# Altium schematic symbol library kmilo17pet-NSC_Interface.SchLib: 1433 symbols (part 22 of 51)
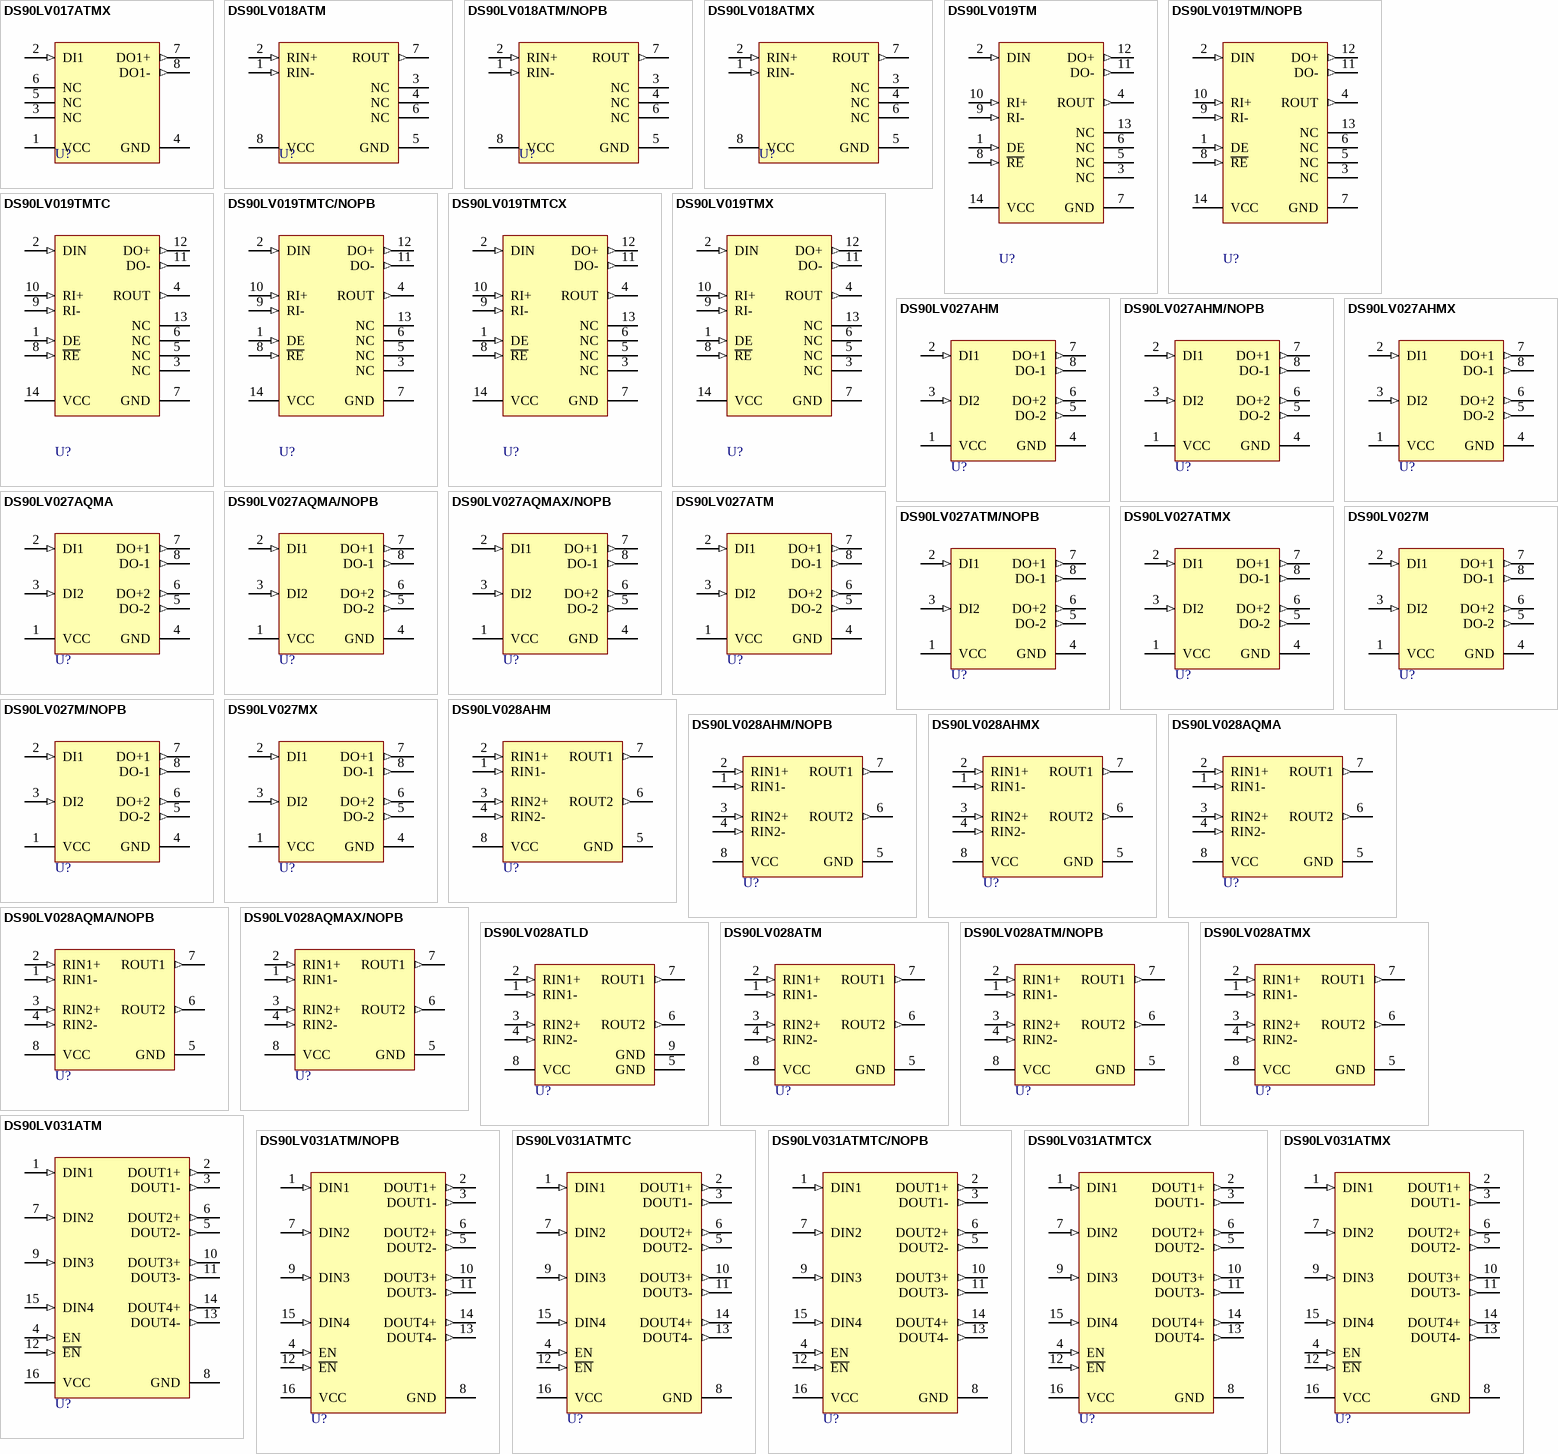
[diagram p145: symbols DS90LV017ATMX to DS90LV031ATMX]

## DS90LV028AHM
designator U?
High Temperature 3V LVDS Dual CMOS Differential Line Receiver, 8-pin Narrow SOIC; PartNumber: DS90LV028AHM; Manufacturer: National Semiconductor; PackageTopMarking: NSZXTT*90LV0*28AHM; PowerWise: N; CompType: Interface IC; High-Reliability: Y; DatasheetVersion: Sep-2005; PackageVersion: revM, May-2009; PackageReference: M08A; PackageDescription: SOIC Narrow, 4.9 x 3.9 x 1.45mm, 8 Lead, 1.27mm Pitch; RoHS: N; PinCount: 8; Code_JEDEC: MS-012-AA; Code_IPC: SOIC127P600-8; ComponentLink1Description: Manufacturer URL; ComponentLink1URL: http://www.national.com/; ComponentLink2Description: DS90LV028AH Datasheet; ComponentLink2URL: http://www.national.com/ds/DS/DS90LV028AH.pdf; ComponentLink3Description: DS90LV028AH Web Page; ComponentLink3URL: http://www.national.com/pf/DS/DS90LV028AH.html; ComponentLink4Description: M08A Package Page; ComponentLink4URL: http://www.national.com/packaging/folders/m08a.html
footprint M08A_N (SOIC, 8-Leads, Body 4.9x3.9mm, Pitch 1.27mm, IPC Medium Density)
footprint M08A_L (SOIC, 8-Leads, Body 4.9x3.9mm, Pitch 1.27mm, IPC High Density)
footprint M08A_M (SOIC, 8-Leads, Body 4.9x3.9mm, Pitch 1.27mm, IPC Low Density)
pins: 1 RIN1- (in), 2 RIN1+ (in), 3 RIN2+ (in), 4 RIN2- (in), 5 GND (power), 6 ROUT2 (out), 7 ROUT1 (out), 8 VCC (power)

## DS90LV028AHM/NOPB
designator U?
High Temperature 3V LVDS Dual CMOS Differential Line Receiver, 8 pin SOIC NARROW; PartNumber: DS90LV028AHM/NOPB; Manufacturer: National Semiconductor; PackageTopMarking: NSZXTT*90LV0*28AHM; PowerWise: N; CompType: Interface IC; High-Reliability: Y; DatasheetVersion: Sep-2005; PackageVersion: revM, May-2009; PackageReference: M08A; PackageDescription: SOIC Narrow, 4.9 x 3.9 x 1.45mm, 8 Lead, 1.27mm Pitch; RoHS: Y; PinCount: 8; Code_JEDEC: MS-012-AA; Code_IPC: SOIC127P600-8; ComponentLink1Description: Manufacturer URL; ComponentLink1URL: http://www.national.com/; ComponentLink2Description: DS90LV028AH Datasheet; ComponentLink2URL: http://www.national.com/ds/DS/DS90LV028AH.pdf; ComponentLink3Description: DS90LV028AH Web Page; ComponentLink3URL: http://www.national.com/pf/DS/DS90LV028AH.html; ComponentLink4Description: M08A Package Page; ComponentLink4URL: http://www.national.com/packaging/folders/m08a.html
footprint M08A_N (SOIC, 8-Leads, Body 4.9x3.9mm, Pitch 1.27mm, IPC Medium Density)
footprint M08A_L (SOIC, 8-Leads, Body 4.9x3.9mm, Pitch 1.27mm, IPC High Density)
footprint M08A_M (SOIC, 8-Leads, Body 4.9x3.9mm, Pitch 1.27mm, IPC Low Density)
pins: 1 RIN1- (in), 2 RIN1+ (in), 3 RIN2+ (in), 4 RIN2- (in), 5 GND (power), 6 ROUT2 (out), 7 ROUT1 (out), 8 VCC (power)

## DS90LV028AHMX
designator U?
High Temperature 3V LVDS Dual CMOS Differential Line Receiver, 8 pin SOIC NARROW; PartNumber: DS90LV028AHMX; Manufacturer: National Semiconductor; PackageTopMarking: NSZXTT*90LV0*28AHM; PowerWise: N; CompType: Interface IC; High-Reliability: Y; DatasheetVersion: Sep-2005; PackageVersion: revM, May-2009; PackageReference: M08A; PackageDescription: SOIC Narrow, 4.9 x 3.9 x 1.45mm, 8 Lead, 1.27mm Pitch; RoHS: N; PinCount: 8; Code_JEDEC: MS-012-AA; Code_IPC: SOIC127P600-8; ComponentLink1Description: Manufacturer URL; ComponentLink1URL: http://www.national.com/; ComponentLink2Description: DS90LV028AH Datasheet; ComponentLink2URL: http://www.national.com/ds/DS/DS90LV028AH.pdf; ComponentLink3Description: DS90LV028AH Web Page; ComponentLink3URL: http://www.national.com/pf/DS/DS90LV028AH.html; ComponentLink4Description: M08A Package Page; ComponentLink4URL: http://www.national.com/packaging/folders/m08a.html
footprint M08A_N (SOIC, 8-Leads, Body 4.9x3.9mm, Pitch 1.27mm, IPC Medium Density)
footprint M08A_L (SOIC, 8-Leads, Body 4.9x3.9mm, Pitch 1.27mm, IPC High Density)
footprint M08A_M (SOIC, 8-Leads, Body 4.9x3.9mm, Pitch 1.27mm, IPC Low Density)
pins: 1 RIN1- (in), 2 RIN1+ (in), 3 RIN2+ (in), 4 RIN2- (in), 5 GND (power), 6 ROUT2 (out), 7 ROUT1 (out), 8 VCC (power)

## DS90LV028AQMA
designator U?
Automotive LVDS Dual Differential Line Receiver, 8-pin Narrow SOIC; PartNumber: DS90LV028AQMA; Manufacturer: National Semiconductor; PackageTopMarking: NSZXTT*90LV0*28AQM; PowerWise: N; CompType: Interface IC; High-Reliability: Y; DatasheetVersion: Oct-2008; PackageVersion: revM, May-2009; PackageReference: M08A; PackageDescription: SOIC Narrow, 4.9 x 3.9 x 1.45mm, 8 Lead, 1.27mm Pitch; RoHS: Y; PinCount: 8; Code_JEDEC: MS-012-AA; Code_IPC: SOIC127P600-8; ComponentLink1Description: Manufacturer URL; ComponentLink1URL: http://www.national.com/; ComponentLink2Description: DS90LV028AQ Datasheet; ComponentLink2URL: http://www.national.com/ds/DS/DS90LV028AQ.pdf; ComponentLink3Description: DS90LV028AQ Web Page; ComponentLink3URL: http://www.national.com/pf/DS/DS90LV028AQ.html; ComponentLink4Description: M08A Package Page; ComponentLink4URL: http://www.national.com/packaging/folders/m08a.html
footprint M08A_N (SOIC, 8-Leads, Body 4.9x3.9mm, Pitch 1.27mm, IPC Medium Density)
footprint M08A_L (SOIC, 8-Leads, Body 4.9x3.9mm, Pitch 1.27mm, IPC High Density)
footprint M08A_M (SOIC, 8-Leads, Body 4.9x3.9mm, Pitch 1.27mm, IPC Low Density)
pins: 1 RIN1- (in), 2 RIN1+ (in), 3 RIN2+ (in), 4 RIN2- (in), 5 GND (power), 6 ROUT2 (out), 7 ROUT1 (out), 8 VCC (power)

## DS90LV028AQMA/NOPB
designator U?
Automotive LVDS Dual Differential Line Receiver, 8-pin Narrow SOIC, Pb-Free; PartNumber: DS90LV028AQMA/NOPB; Manufacturer: National Semiconductor; PackageTopMarking: NSZXTT*90LV0*28AQM; PowerWise: N; CompType: Interface IC; High-Reliability: Y; DatasheetVersion: Oct-2008; PackageVersion: revM, May-2009; PackageReference: M08A; PackageDescription: SOIC Narrow, 4.9 x 3.9 x 1.45mm, 8 Lead, 1.27mm Pitch; RoHS: Y; PinCount: 8; Code_JEDEC: MS-012-AA; Code_IPC: SOIC127P600-8; ComponentLink1Description: Manufacturer URL; ComponentLink1URL: http://www.national.com/; ComponentLink2Description: DS90LV028AQ Datasheet; ComponentLink2URL: http://www.national.com/ds/DS/DS90LV028AQ.pdf; ComponentLink3Description: DS90LV028AQ Web Page; ComponentLink3URL: http://www.national.com/pf/DS/DS90LV028AQ.html; ComponentLink4Description: M08A Package Page; ComponentLink4URL: http://www.national.com/packaging/folders/m08a.html
footprint M08A_N (SOIC, 8-Leads, Body 4.9x3.9mm, Pitch 1.27mm, IPC Medium Density)
footprint M08A_L (SOIC, 8-Leads, Body 4.9x3.9mm, Pitch 1.27mm, IPC High Density)
footprint M08A_M (SOIC, 8-Leads, Body 4.9x3.9mm, Pitch 1.27mm, IPC Low Density)
pins: 1 RIN1- (in), 2 RIN1+ (in), 3 RIN2+ (in), 4 RIN2- (in), 5 GND (power), 6 ROUT2 (out), 7 ROUT1 (out), 8 VCC (power)

## DS90LV028AQMAX/NOPB
designator U?
Automotive LVDS Dual Differential Line Receiver, 8-pin Narrow SOIC, Pb-Free; PartNumber: DS90LV028AQMAX/NOPB; Manufacturer: National Semiconductor; PackageTopMarking: NSZXTT*90LV0*28AQM; PowerWise: N; CompType: Interface IC; High-Reliability: Y; DatasheetVersion: Oct-2008; PackageVersion: revM, May-2009; PackageReference: M08A; PackageDescription: SOIC Narrow, 4.9 x 3.9 x 1.45mm, 8 Lead, 1.27mm Pitch; RoHS: Y; PinCount: 8; Code_JEDEC: MS-012-AA; Code_IPC: SOIC127P600-8; ComponentLink1Description: Manufacturer URL; ComponentLink1URL: http://www.national.com/; ComponentLink2Description: DS90LV028AQ Datasheet; ComponentLink2URL: http://www.national.com/ds/DS/DS90LV028AQ.pdf; ComponentLink3Description: DS90LV028AQ Web Page; ComponentLink3URL: http://www.national.com/pf/DS/DS90LV028AQ.html; ComponentLink4Description: M08A Package Page; ComponentLink4URL: http://www.national.com/packaging/folders/m08a.html
footprint M08A_N (SOIC, 8-Leads, Body 4.9x3.9mm, Pitch 1.27mm, IPC Medium Density)
footprint M08A_L (SOIC, 8-Leads, Body 4.9x3.9mm, Pitch 1.27mm, IPC High Density)
footprint M08A_M (SOIC, 8-Leads, Body 4.9x3.9mm, Pitch 1.27mm, IPC Low Density)
pins: 1 RIN1- (in), 2 RIN1+ (in), 3 RIN2+ (in), 4 RIN2- (in), 5 GND (power), 6 ROUT2 (out), 7 ROUT1 (out), 8 VCC (power)

## DS90LV028ATLD
designator U?
3V LVDS Dual CMOS Differential Line Receiver, 8-pin LLP; PartNumber: DS90LV028ATLD; Manufacturer: National Semiconductor; PackageTopMarking: NS*2ZXYTT*LV028AT; PowerWise: N; CompType: Interface IC; High-Reliability: Y; DatasheetVersion: Aug-2005; PackageVersion: revB, Jun-2003; PackageReference: LDC08A; PackageDescription: LLP, Plastic, Dual, 4 x 4 x 0.75mm Body, 8 Lead, 0.8mm Pitch; RoHS: N; PinCount: 8; ComponentLink1Description: Manufacturer URL; ComponentLink1URL: http://www.national.com/; ComponentLink2Description: DS90LV028A Datasheet; ComponentLink2URL: http://www.national.com/ds/DS/DS90LV028A.pdf; ComponentLink3Description: DS90LV028A Web Page; ComponentLink3URL: http://www.national.com/pf/DS/DS90LV028A.html; ComponentLink4Description: LDC08A Package Page; ComponentLink4URL: http://www.national.com/packaging/folders/ldc08a.html
footprint LDC08A (PSON, 8-Leads, Body 4x4mm, Pitch 0.8mm, NSC Recommended)
pins: 1 RIN1- (in), 2 RIN1+ (in), 3 RIN2+ (in), 4 RIN2- (in), 5 GND (power), 6 ROUT2 (out), 7 ROUT1 (out), 8 VCC (power), 9 GND (power)

## DS90LV028ATM
designator U?
3V LVDS Dual CMOS Differential Line Receiver, 8-pin Narrow SOIC; PartNumber: DS90LV028ATM; Manufacturer: National Semiconductor; PackageTopMarking: NSZXTT*90LV0*28ATM; PowerWise: N; CompType: Interface IC; High-Reliability: Y; DatasheetVersion: Aug-2005; PackageVersion: revM, May-2009; PackageReference: M08A; PackageDescription: SOIC Narrow, 4.9 x 3.9 x 1.45mm, 8 Lead, 1.27mm Pitch; RoHS: N; PinCount: 8; Code_JEDEC: MS-012-AA; Code_IPC: SOIC127P600-8; ComponentLink1Description: Manufacturer URL; ComponentLink1URL: http://www.national.com/; ComponentLink2Description: DS90LV028A Datasheet; ComponentLink2URL: http://www.national.com/ds/DS/DS90LV028A.pdf; ComponentLink3Description: DS90LV028A Web Page; ComponentLink3URL: http://www.national.com/pf/DS/DS90LV028A.html; ComponentLink4Description: M08A Package Page; ComponentLink4URL: http://www.national.com/packaging/folders/m08a.html
footprint M08A_N (SOIC, 8-Leads, Body 4.9x3.9mm, Pitch 1.27mm, IPC Medium Density)
footprint M08A_L (SOIC, 8-Leads, Body 4.9x3.9mm, Pitch 1.27mm, IPC High Density)
footprint M08A_M (SOIC, 8-Leads, Body 4.9x3.9mm, Pitch 1.27mm, IPC Low Density)
pins: 1 RIN1- (in), 2 RIN1+ (in), 3 RIN2+ (in), 4 RIN2- (in), 5 GND (power), 6 ROUT2 (out), 7 ROUT1 (out), 8 VCC (power)

## DS90LV028ATM/NOPB
designator U?
3V LVDS Dual CMOS Differential Line Receiver, 8-pin Narrow SOIC, Pb-Free; PartNumber: DS90LV028ATM/NOPB; Manufacturer: National Semiconductor; PackageTopMarking: NSZXTT*90LV0*28ATM; PowerWise: N; CompType: Interface IC; High-Reliability: Y; DatasheetVersion: Aug-2005; PackageVersion: revM, May-2009; PackageReference: M08A; PackageDescription: SOIC Narrow, 4.9 x 3.9 x 1.45mm, 8 Lead, 1.27mm Pitch; RoHS: Y; PinCount: 8; Code_JEDEC: MS-012-AA; Code_IPC: SOIC127P600-8; ComponentLink1Description: Manufacturer URL; ComponentLink1URL: http://www.national.com/; ComponentLink2Description: DS90LV028A Datasheet; ComponentLink2URL: http://www.national.com/ds/DS/DS90LV028A.pdf; ComponentLink3Description: DS90LV028A Web Page; ComponentLink3URL: http://www.national.com/pf/DS/DS90LV028A.html; ComponentLink4Description: M08A Package Page; ComponentLink4URL: http://www.national.com/packaging/folders/m08a.html
footprint M08A_N (SOIC, 8-Leads, Body 4.9x3.9mm, Pitch 1.27mm, IPC Medium Density)
footprint M08A_L (SOIC, 8-Leads, Body 4.9x3.9mm, Pitch 1.27mm, IPC High Density)
footprint M08A_M (SOIC, 8-Leads, Body 4.9x3.9mm, Pitch 1.27mm, IPC Low Density)
pins: 1 RIN1- (in), 2 RIN1+ (in), 3 RIN2+ (in), 4 RIN2- (in), 5 GND (power), 6 ROUT2 (out), 7 ROUT1 (out), 8 VCC (power)

## DS90LV028ATMX
designator U?
3V LVDS Dual CMOS Differential Line Receiver, 8-pin Narrow SOIC; PartNumber: DS90LV028ATMX; Manufacturer: National Semiconductor; PackageTopMarking: NSZXTT*90LV0*28ATM; PowerWise: N; CompType: Interface IC; High-Reliability: Y; DatasheetVersion: Aug-2005; PackageVersion: revM, May-2009; PackageReference: M08A; PackageDescription: SOIC Narrow, 4.9 x 3.9 x 1.45mm, 8 Lead, 1.27mm Pitch; RoHS: N; PinCount: 8; Code_JEDEC: MS-012-AA; Code_IPC: SOIC127P600-8; ComponentLink1Description: Manufacturer URL; ComponentLink1URL: http://www.national.com/; ComponentLink2Description: DS90LV028A Datasheet; ComponentLink2URL: http://www.national.com/ds/DS/DS90LV028A.pdf; ComponentLink3Description: DS90LV028A Web Page; ComponentLink3URL: http://www.national.com/pf/DS/DS90LV028A.html; ComponentLink4Description: M08A Package Page; ComponentLink4URL: http://www.national.com/packaging/folders/m08a.html
footprint M08A_N (SOIC, 8-Leads, Body 4.9x3.9mm, Pitch 1.27mm, IPC Medium Density)
footprint M08A_L (SOIC, 8-Leads, Body 4.9x3.9mm, Pitch 1.27mm, IPC High Density)
footprint M08A_M (SOIC, 8-Leads, Body 4.9x3.9mm, Pitch 1.27mm, IPC Low Density)
pins: 1 RIN1- (in), 2 RIN1+ (in), 3 RIN2+ (in), 4 RIN2- (in), 5 GND (power), 6 ROUT2 (out), 7 ROUT1 (out), 8 VCC (power)

## DS90LV031ATM
designator U?
3V LVDS Quad CMOS Differential Line Driver, 16-pin Narrow SOIC; PartNumber: DS90LV031ATM; Manufacturer: National Semiconductor; PackageTopMarking: NS2ZXYTTE#*DS90LV031A*TM; PowerWise: N; CompType: Interface IC; High-Reliability: Y; DatasheetVersion: Jul-1999; PackageVersion: revJ, Aug-1995; PackageReference: M16A; PackageDescription: Molded Package, SO, .150in Wide, 16 Lead; RoHS: N; PinCount: 16; Code_JEDEC: MS-012-AC; Code_IPC: SOIC127P600-16; ComponentLink1Description: Manufacturer URL; ComponentLink1URL: http://www.national.com/; ComponentLink2Description: DS90LV031A Datasheet; ComponentLink2URL: http://www.national.com/ds/DS/DS90LV031A.pdf; ComponentLink3Description: DS90LV031A Web Page; ComponentLink3URL: http://www.national.com/pf/DS/DS90LV031A.html; ComponentLink4Description: M16A Package Page; ComponentLink4URL: http://www.national.com/packaging/folders/m16a.html
footprint M16A_N (SOIC, 16-Leads, Body 9.9x3.9mm, Pitch 1.27mm, IPC Medium Density)
footprint M16A_L (SOIC, 16-Leads, Body 9.9x3.9mm, Pitch 1.27mm, IPC High Density)
footprint M16A_M (SOIC, 16-Leads, Body 9.9x3.9mm, Pitch 1.27mm, IPC Low Density)
pins: 1 DIN1 (in), 2 DOUT1+ (out), 3 DOUT1- (out), 4 EN (in), 5 DOUT2- (out), 6 DOUT2+ (out), 7 DIN2 (in), 8 GND (power), 9 DIN3 (in), 10 DOUT3+ (out), 11 DOUT3- (out), 12 ~{EN} (in), 13 DOUT4- (out), 14 DOUT4+ (out), 15 DIN4 (in), 16 VCC (power)

## DS90LV031ATM/NOPB
designator U?
3V LVDS Quad CMOS Differential Line Driver, 16-pin Narrow SOIC, Pb-Free; PartNumber: DS90LV031ATM/NOPB; Manufacturer: National Semiconductor; PackageTopMarking: NS2ZXYTTE#*DS90LV031A*TM; PowerWise: N; CompType: Interface IC; High-Reliability: Y; DatasheetVersion: Jul-1999; PackageVersion: revJ, Aug-1995; PackageReference: M16A; PackageDescription: Molded Package, SO, .150in Wide, 16 Lead; RoHS: Y; PinCount: 16; Code_JEDEC: MS-012-AC; Code_IPC: SOIC127P600-16; ComponentLink1Description: Manufacturer URL; ComponentLink1URL: http://www.national.com/; ComponentLink2Description: DS90LV031A Datasheet; ComponentLink2URL: http://www.national.com/ds/DS/DS90LV031A.pdf; ComponentLink3Description: DS90LV031A Web Page; ComponentLink3URL: http://www.national.com/pf/DS/DS90LV031A.html; ComponentLink4Description: M16A Package Page; ComponentLink4URL: http://www.national.com/packaging/folders/m16a.html
footprint M16A_N (SOIC, 16-Leads, Body 9.9x3.9mm, Pitch 1.27mm, IPC Medium Density)
footprint M16A_L (SOIC, 16-Leads, Body 9.9x3.9mm, Pitch 1.27mm, IPC High Density)
footprint M16A_M (SOIC, 16-Leads, Body 9.9x3.9mm, Pitch 1.27mm, IPC Low Density)
pins: 1 DIN1 (in), 2 DOUT1+ (out), 3 DOUT1- (out), 4 EN (in), 5 DOUT2- (out), 6 DOUT2+ (out), 7 DIN2 (in), 8 GND (power), 9 DIN3 (in), 10 DOUT3+ (out), 11 DOUT3- (out), 12 ~{EN} (in), 13 DOUT4- (out), 14 DOUT4+ (out), 15 DIN4 (in), 16 VCC (power)

## DS90LV031ATMTC
designator U?
3V LVDS Quad CMOS Differential Line Driver, 16-pin TSSOP; PartNumber: DS90LV031ATMTC; Manufacturer: National Semiconductor; PackageTopMarking: NS2ZXYTT*DS90LV*031AT; PowerWise: N; CompType: Interface IC; High-Reliability: Y; DatasheetVersion: Jul-1999; PackageVersion: revD, Jun-2003; PackageReference: MTC16; PackageDescription: Molded TSSOP, Jedec, 5 x 4.4 x 0.9mm Body, 16 Lead, 0.65mm Pitch; RoHS: N; PinCount: 16; Code_JEDEC: MO-153-AB; ComponentLink1Description: Manufacturer URL; ComponentLink1URL: http://www.national.com/; ComponentLink2Description: DS90LV031A Datasheet; ComponentLink2URL: http://www.national.com/ds/DS/DS90LV031A.pdf; ComponentLink3Description: DS90LV031A Web Page; ComponentLink3URL: http://www.national.com/pf/DS/DS90LV031A.html; ComponentLink4Description: MTC16 Package Page; ComponentLink4URL: http://www.national.com/packaging/folders/mtc16.html
footprint MTC16_N (TSOP, 16-Leads, Body 5x4.4mm, Pitch 0.65mm, IPC Medium Density)
footprint MTC16_L (TSOP, 16-Leads, Body 5x4.4mm, Pitch 0.65mm, IPC High Density)
footprint MTC16_M (TSOP, 16-Leads, Body 5x4.4mm, Pitch 0.65mm, IPC Low Density)
pins: 1 DIN1 (in), 2 DOUT1+ (out), 3 DOUT1- (out), 4 EN (in), 5 DOUT2- (out), 6 DOUT2+ (out), 7 DIN2 (in), 8 GND (power), 9 DIN3 (in), 10 DOUT3+ (out), 11 DOUT3- (out), 12 ~{EN} (in), 13 DOUT4- (out), 14 DOUT4+ (out), 15 DIN4 (in), 16 VCC (power)

## DS90LV031ATMTC/NOPB
designator U?
3V LVDS Quad CMOS Differential Line Driver, 16-pin TSSOP, Pb-Free; PartNumber: DS90LV031ATMTC/NOPB; Manufacturer: National Semiconductor; PackageTopMarking: NS2ZXYTT*DS90LV*031AT; PowerWise: N; CompType: Interface IC; High-Reliability: Y; DatasheetVersion: Jul-1999; PackageVersion: revD, Jun-2003; PackageReference: MTC16; PackageDescription: Molded TSSOP, Jedec, 5 x 4.4 x 0.9mm Body, 16 Lead, 0.65mm Pitch; RoHS: Y; PinCount: 16; Code_JEDEC: MO-153-AB; ComponentLink1Description: Manufacturer URL; ComponentLink1URL: http://www.national.com/; ComponentLink2Description: DS90LV031A Datasheet; ComponentLink2URL: http://www.national.com/ds/DS/DS90LV031A.pdf; ComponentLink3Description: DS90LV031A Web Page; ComponentLink3URL: http://www.national.com/pf/DS/DS90LV031A.html; ComponentLink4Description: MTC16 Package Page; ComponentLink4URL: http://www.national.com/packaging/folders/mtc16.html
footprint MTC16_N (TSOP, 16-Leads, Body 5x4.4mm, Pitch 0.65mm, IPC Medium Density)
footprint MTC16_L (TSOP, 16-Leads, Body 5x4.4mm, Pitch 0.65mm, IPC High Density)
footprint MTC16_M (TSOP, 16-Leads, Body 5x4.4mm, Pitch 0.65mm, IPC Low Density)
pins: 1 DIN1 (in), 2 DOUT1+ (out), 3 DOUT1- (out), 4 EN (in), 5 DOUT2- (out), 6 DOUT2+ (out), 7 DIN2 (in), 8 GND (power), 9 DIN3 (in), 10 DOUT3+ (out), 11 DOUT3- (out), 12 ~{EN} (in), 13 DOUT4- (out), 14 DOUT4+ (out), 15 DIN4 (in), 16 VCC (power)

## DS90LV031ATMTCX
designator U?
3V LVDS Quad CMOS Differential Line Driver, 16-pin TSSOP; PartNumber: DS90LV031ATMTCX; Manufacturer: National Semiconductor; PackageTopMarking: NS2ZXYTT*DS90LV*031AT; PowerWise: N; CompType: Interface IC; High-Reliability: Y; DatasheetVersion: Jul-1999; PackageVersion: revD, Jun-2003; PackageReference: MTC16; PackageDescription: Molded TSSOP, Jedec, 5 x 4.4 x 0.9mm Body, 16 Lead, 0.65mm Pitch; RoHS: N; PinCount: 16; Code_JEDEC: MO-153-AB; ComponentLink1Description: Manufacturer URL; ComponentLink1URL: http://www.national.com/; ComponentLink2Description: DS90LV031A Datasheet; ComponentLink2URL: http://www.national.com/ds/DS/DS90LV031A.pdf; ComponentLink3Description: DS90LV031A Web Page; ComponentLink3URL: http://www.national.com/pf/DS/DS90LV031A.html; ComponentLink4Description: MTC16 Package Page; ComponentLink4URL: http://www.national.com/packaging/folders/mtc16.html
footprint MTC16_N (TSOP, 16-Leads, Body 5x4.4mm, Pitch 0.65mm, IPC Medium Density)
footprint MTC16_L (TSOP, 16-Leads, Body 5x4.4mm, Pitch 0.65mm, IPC High Density)
footprint MTC16_M (TSOP, 16-Leads, Body 5x4.4mm, Pitch 0.65mm, IPC Low Density)
pins: 1 DIN1 (in), 2 DOUT1+ (out), 3 DOUT1- (out), 4 EN (in), 5 DOUT2- (out), 6 DOUT2+ (out), 7 DIN2 (in), 8 GND (power), 9 DIN3 (in), 10 DOUT3+ (out), 11 DOUT3- (out), 12 ~{EN} (in), 13 DOUT4- (out), 14 DOUT4+ (out), 15 DIN4 (in), 16 VCC (power)

## DS90LV031ATMX
designator U?
3V LVDS Quad CMOS Differential Line Driver, 16-pin Narrow SOIC; PartNumber: DS90LV031ATMX; Manufacturer: National Semiconductor; PackageTopMarking: NS2ZXYTTE#*DS90LV031A*TM; PowerWise: N; CompType: Interface IC; High-Reliability: Y; DatasheetVersion: Jul-1999; PackageVersion: revJ, Aug-1995; PackageReference: M16A; PackageDescription: Molded Package, SO, .150in Wide, 16 Lead; RoHS: N; PinCount: 16; Code_JEDEC: MS-012-AC; Code_IPC: SOIC127P600-16; ComponentLink1Description: Manufacturer URL; ComponentLink1URL: http://www.national.com/; ComponentLink2Description: DS90LV031A Datasheet; ComponentLink2URL: http://www.national.com/ds/DS/DS90LV031A.pdf; ComponentLink3Description: DS90LV031A Web Page; ComponentLink3URL: http://www.national.com/pf/DS/DS90LV031A.html; ComponentLink4Description: M16A Package Page; ComponentLink4URL: http://www.national.com/packaging/folders/m16a.html
footprint M16A_N (SOIC, 16-Leads, Body 9.9x3.9mm, Pitch 1.27mm, IPC Medium Density)
footprint M16A_L (SOIC, 16-Leads, Body 9.9x3.9mm, Pitch 1.27mm, IPC High Density)
footprint M16A_M (SOIC, 16-Leads, Body 9.9x3.9mm, Pitch 1.27mm, IPC Low Density)
pins: 1 DIN1 (in), 2 DOUT1+ (out), 3 DOUT1- (out), 4 EN (in), 5 DOUT2- (out), 6 DOUT2+ (out), 7 DIN2 (in), 8 GND (power), 9 DIN3 (in), 10 DOUT3+ (out), 11 DOUT3- (out), 12 ~{EN} (in), 13 DOUT4- (out), 14 DOUT4+ (out), 15 DIN4 (in), 16 VCC (power)

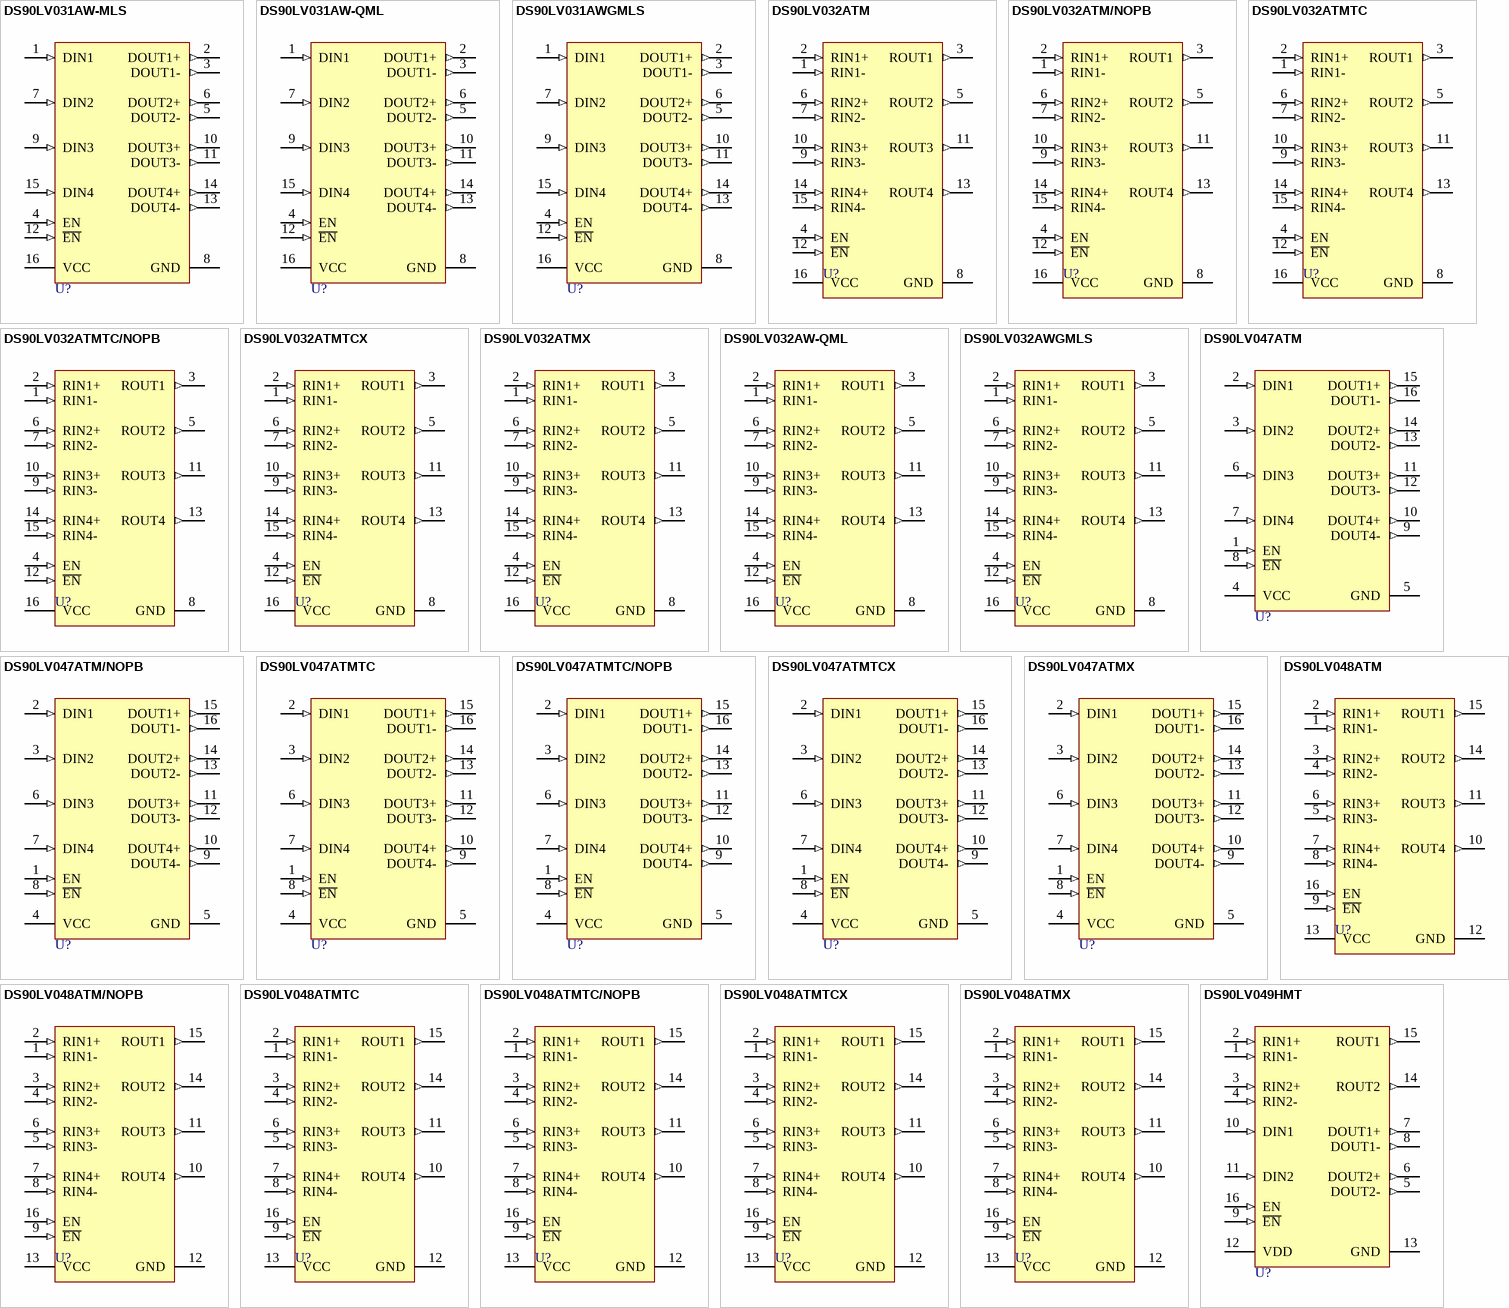
[diagram p61: symbols DS90LV031AW-MLS to DS90LV049HMT]

## DS90LV031AW-MLS
designator U?
3V LVDS Quad CMOS Differential Line Driver, 16-pin CerPACK; PartNumber: DS90LV031AW-MLS; Manufacturer: National Semiconductor; PackageTopMarking: NSZSSXXYYA*DS90LV031AW-*MLS; PowerWise: N; CompType: Interface IC; High-Reliability: Y; DatasheetVersion: Jul-1999; PackageVersion: revT, Jul-2005; PackageReference: W16A; PackageDescription: Cerpack, .390 x .250 x .074in Body, 16 Lead, .050in Pitch; RoHS: N; PinCount: 16; Code_JEDEC: MO-092-AC; ComponentLink1Description: Manufacturer URL; ComponentLink1URL: http://www.national.com/; ComponentLink2Description: DS90LV031A Datasheet; ComponentLink2URL: http://www.national.com/ds/DS/DS90LV031A.pdf; ComponentLink3Description: DS90LV031A Web Page; ComponentLink3URL: http://www.national.com/pf/DS/DS90LV031A.html; ComponentLink4Description: W16A Package Page; ComponentLink4URL: http://www.national.com/packaging/folders/w16a.html
footprint W16A (DFP; 16 Leads; Body 9.9 x 7.6 mm (LxW max); Pitch 1.27 mm)
pins: 1 DIN1 (in), 2 DOUT1+ (out), 3 DOUT1- (out), 4 EN (in), 5 DOUT2- (out), 6 DOUT2+ (out), 7 DIN2 (in), 8 GND (power), 9 DIN3 (in), 10 DOUT3+ (out), 11 DOUT3- (out), 12 ~{EN} (in), 13 DOUT4- (out), 14 DOUT4+ (out), 15 DIN4 (in), 16 VCC (power)

## DS90LV031AW-QML
designator U?
3V LVDS Quad CMOS Differential Line Driver, 16-pin CerPACK; PartNumber: DS90LV031AW-QML; Manufacturer: National Semiconductor; PackageTopMarking: NSZSSXXYYA*DS90LV031AW*-QML Q 5962*-9865101QFA; PowerWise: N; CompType: Interface IC; High-Reliability: Y; DatasheetVersion: Jul-1999; PackageVersion: revT, Jul-2005; PackageReference: W16A; PackageDescription: Cerpack, .390 x .250 x .074in Body, 16 Lead, .050in Pitch; RoHS: N; PinCount: 16; Code_JEDEC: MO-092-AC; ComponentLink1Description: Manufacturer URL; ComponentLink1URL: http://www.national.com/; ComponentLink2Description: DS90LV031A Datasheet; ComponentLink2URL: http://www.national.com/ds/DS/DS90LV031A.pdf; ComponentLink3Description: DS90LV031A Web Page; ComponentLink3URL: http://www.national.com/pf/DS/DS90LV031A.html; ComponentLink4Description: W16A Package Page; ComponentLink4URL: http://www.national.com/packaging/folders/w16a.html
footprint W16A (DFP; 16 Leads; Body 9.9 x 7.6 mm (LxW max); Pitch 1.27 mm)
pins: 1 DIN1 (in), 2 DOUT1+ (out), 3 DOUT1- (out), 4 EN (in), 5 DOUT2- (out), 6 DOUT2+ (out), 7 DIN2 (in), 8 GND (power), 9 DIN3 (in), 10 DOUT3+ (out), 11 DOUT3- (out), 12 ~{EN} (in), 13 DOUT4- (out), 14 DOUT4+ (out), 15 DIN4 (in), 16 VCC (power)

## DS90LV031AWGMLS
designator U?
3V LVDS Quad CMOS Differential Line Driver, 16-pin CerPACK; PartNumber: DS90LV031AWGMLS; Manufacturer: National Semiconductor; PackageTopMarking: NSZSSXXYYA*DS90LV031AWG*MLS; PowerWise: N; CompType: Interface IC; High-Reliability: Y; DatasheetVersion: Jul-1999; PackageVersion: revE, Jul-2007; PackageReference: WG16A; PackageDescription: Cerpack, .390 x .250 x .070in, 16 Lead, .050in Pitch, Gull Wing; RoHS: N; PinCount: 16; ComponentLink1Description: Manufacturer URL; ComponentLink1URL: http://www.national.com/; ComponentLink2Description: DS90LV031A Datasheet; ComponentLink2URL: http://www.national.com/ds/DS/DS90LV031A.pdf; ComponentLink3Description: DS90LV031A Web Page; ComponentLink3URL: http://www.national.com/pf/DS/DS90LV031A.html; ComponentLink4Description: WG16A Package Page; ComponentLink4URL: http://www.national.com/packaging/folders/wg16a.html
footprint WG16A_N (CERPACK, 16-Leads, Body 9.9x6.5mm, Pitch 1.27mm, IPC Medium Density)
footprint WG16A_L (CERPACK, 16-Leads, Body 9.9x6.5mm, Pitch 1.27mm, IPC High Density)
footprint WG16A_M (CERPACK, 16-Leads, Body 9.9x6.5mm, Pitch 1.27mm, IPC Low Density)
pins: 1 DIN1 (in), 2 DOUT1+ (out), 3 DOUT1- (out), 4 EN (in), 5 DOUT2- (out), 6 DOUT2+ (out), 7 DIN2 (in), 8 GND (power), 9 DIN3 (in), 10 DOUT3+ (out), 11 DOUT3- (out), 12 ~{EN} (in), 13 DOUT4- (out), 14 DOUT4+ (out), 15 DIN4 (in), 16 VCC (power)

## DS90LV032ATM
designator U?
3V LVDS Quad CMOS Differential Line Receiver, 16-pin Narrow SOIC; PartNumber: DS90LV032ATM; Manufacturer: National Semiconductor; PackageTopMarking: NS2ZXYTTE#*DS90LV032A*TM; PowerWise: N; CompType: Interface IC; High-Reliability: Y; DatasheetVersion: Jul-1999; PackageVersion: revJ, Aug-1995; PackageReference: M16A; PackageDescription: Molded Package, SO, .150in Wide, 16 Lead; RoHS: N; PinCount: 16; Code_JEDEC: MS-012-AC; Code_IPC: SOIC127P600-16; ComponentLink1Description: Manufacturer URL; ComponentLink1URL: http://www.national.com/; ComponentLink2Description: DS90LV032A Datasheet; ComponentLink2URL: http://www.national.com/ds/DS/DS90LV032A.pdf; ComponentLink3Description: DS90LV032A Web Page; ComponentLink3URL: http://www.national.com/pf/DS/DS90LV032A.html; ComponentLink4Description: M16A Package Page; ComponentLink4URL: http://www.national.com/packaging/folders/m16a.html
footprint M16A_N (SOIC, 16-Leads, Body 9.9x3.9mm, Pitch 1.27mm, IPC Medium Density)
footprint M16A_L (SOIC, 16-Leads, Body 9.9x3.9mm, Pitch 1.27mm, IPC High Density)
footprint M16A_M (SOIC, 16-Leads, Body 9.9x3.9mm, Pitch 1.27mm, IPC Low Density)
pins: 1 RIN1- (in), 2 RIN1+ (in), 3 ROUT1 (out), 4 EN (in), 5 ROUT2 (out), 6 RIN2+ (in), 7 RIN2- (in), 8 GND (power), 9 RIN3- (in), 10 RIN3+ (in), 11 ROUT3 (out), 12 ~{EN} (in), 13 ROUT4 (out), 14 RIN4+ (in), 15 RIN4- (in), 16 VCC (power)

## DS90LV032ATM/NOPB
designator U?
3V LVDS Quad CMOS Differential Line Receiver, 16-pin Narrow SOIC, Pb-Free; PartNumber: DS90LV032ATM/NOPB; Manufacturer: National Semiconductor; PackageTopMarking: NS2ZXYTTE#*DS90LV032A*TM; PowerWise: N; CompType: Interface IC; High-Reliability: Y; DatasheetVersion: Jul-1999; PackageVersion: revJ, Aug-1995; PackageReference: M16A; PackageDescription: Molded Package, SO, .150in Wide, 16 Lead; RoHS: Y; PinCount: 16; Code_JEDEC: MS-012-AC; Code_IPC: SOIC127P600-16; ComponentLink1Description: Manufacturer URL; ComponentLink1URL: http://www.national.com/; ComponentLink2Description: DS90LV032A Datasheet; ComponentLink2URL: http://www.national.com/ds/DS/DS90LV032A.pdf; ComponentLink3Description: DS90LV032A Web Page; ComponentLink3URL: http://www.national.com/pf/DS/DS90LV032A.html; ComponentLink4Description: M16A Package Page; ComponentLink4URL: http://www.national.com/packaging/folders/m16a.html
footprint M16A_N (SOIC, 16-Leads, Body 9.9x3.9mm, Pitch 1.27mm, IPC Medium Density)
footprint M16A_L (SOIC, 16-Leads, Body 9.9x3.9mm, Pitch 1.27mm, IPC High Density)
footprint M16A_M (SOIC, 16-Leads, Body 9.9x3.9mm, Pitch 1.27mm, IPC Low Density)
pins: 1 RIN1- (in), 2 RIN1+ (in), 3 ROUT1 (out), 4 EN (in), 5 ROUT2 (out), 6 RIN2+ (in), 7 RIN2- (in), 8 GND (power), 9 RIN3- (in), 10 RIN3+ (in), 11 ROUT3 (out), 12 ~{EN} (in), 13 ROUT4 (out), 14 RIN4+ (in), 15 RIN4- (in), 16 VCC (power)

## DS90LV032ATMTC
designator U?
3V LVDS Quad CMOS Differential Line Receiver, 16-pin TSSOP; PartNumber: DS90LV032ATMTC; Manufacturer: National Semiconductor; PackageTopMarking: NS2ZXYTT*DS90LV*032AT; PowerWise: N; CompType: Interface IC; High-Reliability: Y; DatasheetVersion: Jul-1999; PackageVersion: revD, Jun-2003; PackageReference: MTC16; PackageDescription: Molded TSSOP, Jedec, 5 x 4.4 x 0.9mm Body, 16 Lead, 0.65mm Pitch; RoHS: N; PinCount: 16; Code_JEDEC: MO-153-AB; ComponentLink1Description: Manufacturer URL; ComponentLink1URL: http://www.national.com/; ComponentLink2Description: DS90LV032A Datasheet; ComponentLink2URL: http://www.national.com/ds/DS/DS90LV032A.pdf; ComponentLink3Description: DS90LV032A Web Page; ComponentLink3URL: http://www.national.com/pf/DS/DS90LV032A.html; ComponentLink4Description: MTC16 Package Page; ComponentLink4URL: http://www.national.com/packaging/folders/mtc16.html
footprint MTC16_N (TSOP, 16-Leads, Body 5x4.4mm, Pitch 0.65mm, IPC Medium Density)
footprint MTC16_L (TSOP, 16-Leads, Body 5x4.4mm, Pitch 0.65mm, IPC High Density)
footprint MTC16_M (TSOP, 16-Leads, Body 5x4.4mm, Pitch 0.65mm, IPC Low Density)
pins: 1 RIN1- (in), 2 RIN1+ (in), 3 ROUT1 (out), 4 EN (in), 5 ROUT2 (out), 6 RIN2+ (in), 7 RIN2- (in), 8 GND (power), 9 RIN3- (in), 10 RIN3+ (in), 11 ROUT3 (out), 12 ~{EN} (in), 13 ROUT4 (out), 14 RIN4+ (in), 15 RIN4- (in), 16 VCC (power)

## DS90LV032ATMTC/NOPB
designator U?
3V LVDS Quad CMOS Differential Line Receiver, 16-pin TSSOP, Pb-Free; PartNumber: DS90LV032ATMTC/NOPB; Manufacturer: National Semiconductor; PackageTopMarking: NS2ZXYTT*DS90LV*032AT; PowerWise: N; CompType: Interface IC; High-Reliability: Y; DatasheetVersion: Jul-1999; PackageVersion: revD, Jun-2003; PackageReference: MTC16; PackageDescription: Molded TSSOP, Jedec, 5 x 4.4 x 0.9mm Body, 16 Lead, 0.65mm Pitch; RoHS: Y; PinCount: 16; Code_JEDEC: MO-153-AB; ComponentLink1Description: Manufacturer URL; ComponentLink1URL: http://www.national.com/; ComponentLink2Description: DS90LV032A Datasheet; ComponentLink2URL: http://www.national.com/ds/DS/DS90LV032A.pdf; ComponentLink3Description: DS90LV032A Web Page; ComponentLink3URL: http://www.national.com/pf/DS/DS90LV032A.html; ComponentLink4Description: MTC16 Package Page; ComponentLink4URL: http://www.national.com/packaging/folders/mtc16.html
footprint MTC16_N (TSOP, 16-Leads, Body 5x4.4mm, Pitch 0.65mm, IPC Medium Density)
footprint MTC16_L (TSOP, 16-Leads, Body 5x4.4mm, Pitch 0.65mm, IPC High Density)
footprint MTC16_M (TSOP, 16-Leads, Body 5x4.4mm, Pitch 0.65mm, IPC Low Density)
pins: 1 RIN1- (in), 2 RIN1+ (in), 3 ROUT1 (out), 4 EN (in), 5 ROUT2 (out), 6 RIN2+ (in), 7 RIN2- (in), 8 GND (power), 9 RIN3- (in), 10 RIN3+ (in), 11 ROUT3 (out), 12 ~{EN} (in), 13 ROUT4 (out), 14 RIN4+ (in), 15 RIN4- (in), 16 VCC (power)

## DS90LV032ATMTCX
designator U?
3V LVDS Quad CMOS Differential Line Receiver, 16-pin TSSOP; PartNumber: DS90LV032ATMTCX; Manufacturer: National Semiconductor; PackageTopMarking: NS2ZXYTT*DS90LV*032AT; PowerWise: N; CompType: Interface IC; High-Reliability: Y; DatasheetVersion: Jul-1999; PackageVersion: revD, Jun-2003; PackageReference: MTC16; PackageDescription: Molded TSSOP, Jedec, 5 x 4.4 x 0.9mm Body, 16 Lead, 0.65mm Pitch; RoHS: N; PinCount: 16; Code_JEDEC: MO-153-AB; ComponentLink1Description: Manufacturer URL; ComponentLink1URL: http://www.national.com/; ComponentLink2Description: DS90LV032A Datasheet; ComponentLink2URL: http://www.national.com/ds/DS/DS90LV032A.pdf; ComponentLink3Description: DS90LV032A Web Page; ComponentLink3URL: http://www.national.com/pf/DS/DS90LV032A.html; ComponentLink4Description: MTC16 Package Page; ComponentLink4URL: http://www.national.com/packaging/folders/mtc16.html
footprint MTC16_N (TSOP, 16-Leads, Body 5x4.4mm, Pitch 0.65mm, IPC Medium Density)
footprint MTC16_L (TSOP, 16-Leads, Body 5x4.4mm, Pitch 0.65mm, IPC High Density)
footprint MTC16_M (TSOP, 16-Leads, Body 5x4.4mm, Pitch 0.65mm, IPC Low Density)
pins: 1 RIN1- (in), 2 RIN1+ (in), 3 ROUT1 (out), 4 EN (in), 5 ROUT2 (out), 6 RIN2+ (in), 7 RIN2- (in), 8 GND (power), 9 RIN3- (in), 10 RIN3+ (in), 11 ROUT3 (out), 12 ~{EN} (in), 13 ROUT4 (out), 14 RIN4+ (in), 15 RIN4- (in), 16 VCC (power)

## DS90LV032ATMX
designator U?
3V LVDS Quad CMOS Differential Line Receiver, 16-pin Narrow SOIC; PartNumber: DS90LV032ATMX; Manufacturer: National Semiconductor; PackageTopMarking: NS2ZXYTTE#*DS90LV032A*TM; PowerWise: N; CompType: Interface IC; High-Reliability: Y; DatasheetVersion: Jul-1999; PackageVersion: revJ, Aug-1995; PackageReference: M16A; PackageDescription: Molded Package, SO, .150in Wide, 16 Lead; RoHS: N; PinCount: 16; Code_JEDEC: MS-012-AC; Code_IPC: SOIC127P600-16; ComponentLink1Description: Manufacturer URL; ComponentLink1URL: http://www.national.com/; ComponentLink2Description: DS90LV032A Datasheet; ComponentLink2URL: http://www.national.com/ds/DS/DS90LV032A.pdf; ComponentLink3Description: DS90LV032A Web Page; ComponentLink3URL: http://www.national.com/pf/DS/DS90LV032A.html; ComponentLink4Description: M16A Package Page; ComponentLink4URL: http://www.national.com/packaging/folders/m16a.html
footprint M16A_N (SOIC, 16-Leads, Body 9.9x3.9mm, Pitch 1.27mm, IPC Medium Density)
footprint M16A_L (SOIC, 16-Leads, Body 9.9x3.9mm, Pitch 1.27mm, IPC High Density)
footprint M16A_M (SOIC, 16-Leads, Body 9.9x3.9mm, Pitch 1.27mm, IPC Low Density)
pins: 1 RIN1- (in), 2 RIN1+ (in), 3 ROUT1 (out), 4 EN (in), 5 ROUT2 (out), 6 RIN2+ (in), 7 RIN2- (in), 8 GND (power), 9 RIN3- (in), 10 RIN3+ (in), 11 ROUT3 (out), 12 ~{EN} (in), 13 ROUT4 (out), 14 RIN4+ (in), 15 RIN4- (in), 16 VCC (power)

## DS90LV032AW-QML
designator U?
3V LVDS Quad CMOS Differential Line Receiver, 16 pin CERPACK; PartNumber: DS90LV032AW-QML; Manufacturer: National Semiconductor; PackageTopMarking: NSZSSXXYYA*DS90LV032AW*-QML Q 5962*-9865201QFA; PowerWise: N; CompType: Interface IC; High-Reliability: Y; DatasheetVersion: Jul-1999; PackageVersion: revT, Jul-2005; PackageReference: W16A; PackageDescription: Cerpack, .390 x .250 x .074in Body, 16 Lead, .050in Pitch; RoHS: N; PinCount: 16; Code_JEDEC: MO-092-AC; ComponentLink1Description: Manufacturer URL; ComponentLink1URL: http://www.national.com/; ComponentLink2Description: DS90LV032A Datasheet; ComponentLink2URL: http://www.national.com/ds/DS/DS90LV032A.pdf; ComponentLink3Description: DS90LV032A Web Page; ComponentLink3URL: http://www.national.com/pf/DS/DS90LV032A.html; ComponentLink4Description: W16A Package Page; ComponentLink4URL: http://www.national.com/packaging/folders/w16a.html
footprint W16A (DFP; 16 Leads; Body 9.9 x 7.6 mm (LxW max); Pitch 1.27 mm)
pins: 1 RIN1- (in), 2 RIN1+ (in), 3 ROUT1 (out), 4 EN (in), 5 ROUT2 (out), 6 RIN2+ (in), 7 RIN2- (in), 8 GND (power), 9 RIN3- (in), 10 RIN3+ (in), 11 ROUT3 (out), 12 ~{EN} (in), 13 ROUT4 (out), 14 RIN4+ (in), 15 RIN4- (in), 16 VCC (power)

## DS90LV032AWGMLS
designator U?
3V LVDS Quad CMOS Differential Line Receiver, 16 pin CERPACK; PartNumber: DS90LV032AWGMLS; Manufacturer: National Semiconductor; PackageTopMarking: NSZSSXXYYA*DS90LV032AWG*MLS; PowerWise: N; CompType: Interface IC; High-Reliability: Y; DatasheetVersion: Jul-1999; PackageVersion: revE, Jul-2007; PackageReference: WG16A; PackageDescription: Cerpack, .390 x .250 x .070in, 16 Lead, .050in Pitch, Gull Wing; RoHS: N; PinCount: 16; ComponentLink1Description: Manufacturer URL; ComponentLink1URL: http://www.national.com/; ComponentLink2Description: DS90LV032A Datasheet; ComponentLink2URL: http://www.national.com/ds/DS/DS90LV032A.pdf; ComponentLink3Description: DS90LV032A Web Page; ComponentLink3URL: http://www.national.com/pf/DS/DS90LV032A.html; ComponentLink4Description: WG16A Package Page; ComponentLink4URL: http://www.national.com/packaging/folders/wg16a.html
footprint WG16A_N (CERPACK, 16-Leads, Body 9.9x6.5mm, Pitch 1.27mm, IPC Medium Density)
footprint WG16A_L (CERPACK, 16-Leads, Body 9.9x6.5mm, Pitch 1.27mm, IPC High Density)
footprint WG16A_M (CERPACK, 16-Leads, Body 9.9x6.5mm, Pitch 1.27mm, IPC Low Density)
pins: 1 RIN1- (in), 2 RIN1+ (in), 3 ROUT1 (out), 4 EN (in), 5 ROUT2 (out), 6 RIN2+ (in), 7 RIN2- (in), 8 GND (power), 9 RIN3- (in), 10 RIN3+ (in), 11 ROUT3 (out), 12 ~{EN} (in), 13 ROUT4 (out), 14 RIN4+ (in), 15 RIN4- (in), 16 VCC (power)

## DS90LV047ATM
designator U?
3V LVDS Quad CMOS Differential Line Driver, 16-pin Narrow SOIC; PartNumber: DS90LV047ATM; Manufacturer: National Semiconductor; PackageTopMarking: NS2ZXYTTE#*DS90LV047A*TM; PowerWise: N; CompType: Interface IC; High-Reliability: Y; DatasheetVersion: Jan-2003; PackageVersion: revJ, Aug-1995; PackageReference: M16A; PackageDescription: Molded Package, SO, .150in Wide, 16 Lead; RoHS: N; PinCount: 16; Code_JEDEC: MS-012-AC; Code_IPC: SOIC127P600-16; ComponentLink1Description: Manufacturer URL; ComponentLink1URL: http://www.national.com/; ComponentLink2Description: DS90LV047A Datasheet; ComponentLink2URL: http://www.national.com/ds/DS/DS90LV047A.pdf; ComponentLink3Description: DS90LV047A Web Page; ComponentLink3URL: http://www.national.com/pf/DS/DS90LV047A.html; ComponentLink4Description: M16A Package Page; ComponentLink4URL: http://www.national.com/packaging/folders/m16a.html
footprint M16A_N (SOIC, 16-Leads, Body 9.9x3.9mm, Pitch 1.27mm, IPC Medium Density)
footprint M16A_L (SOIC, 16-Leads, Body 9.9x3.9mm, Pitch 1.27mm, IPC High Density)
footprint M16A_M (SOIC, 16-Leads, Body 9.9x3.9mm, Pitch 1.27mm, IPC Low Density)
pins: 1 EN (in), 2 DIN1 (in), 3 DIN2 (in), 4 VCC (power), 5 GND (power), 6 DIN3 (in), 7 DIN4 (in), 8 ~{EN} (in), 9 DOUT4- (out), 10 DOUT4+ (out), 11 DOUT3+ (out), 12 DOUT3- (out), 13 DOUT2- (out), 14 DOUT2+ (out), 15 DOUT1+ (out), 16 DOUT1- (out)

## DS90LV047ATM/NOPB
designator U?
3V LVDS Quad CMOS Differential Line Driver, 16-pin Narrow SOIC, Pb-Free; PartNumber: DS90LV047ATM/NOPB; Manufacturer: National Semiconductor; PackageTopMarking: NS2ZXYTTE#*DS90LV047A*TM; PowerWise: N; CompType: Interface IC; High-Reliability: Y; DatasheetVersion: Jan-2003; PackageVersion: revJ, Aug-1995; PackageReference: M16A; PackageDescription: Molded Package, SO, .150in Wide, 16 Lead; RoHS: Y; PinCount: 16; Code_JEDEC: MS-012-AC; Code_IPC: SOIC127P600-16; ComponentLink1Description: Manufacturer URL; ComponentLink1URL: http://www.national.com/; ComponentLink2Description: DS90LV047A Datasheet; ComponentLink2URL: http://www.national.com/ds/DS/DS90LV047A.pdf; ComponentLink3Description: DS90LV047A Web Page; ComponentLink3URL: http://www.national.com/pf/DS/DS90LV047A.html; ComponentLink4Description: M16A Package Page; ComponentLink4URL: http://www.national.com/packaging/folders/m16a.html
footprint M16A_N (SOIC, 16-Leads, Body 9.9x3.9mm, Pitch 1.27mm, IPC Medium Density)
footprint M16A_L (SOIC, 16-Leads, Body 9.9x3.9mm, Pitch 1.27mm, IPC High Density)
footprint M16A_M (SOIC, 16-Leads, Body 9.9x3.9mm, Pitch 1.27mm, IPC Low Density)
pins: 1 EN (in), 2 DIN1 (in), 3 DIN2 (in), 4 VCC (power), 5 GND (power), 6 DIN3 (in), 7 DIN4 (in), 8 ~{EN} (in), 9 DOUT4- (out), 10 DOUT4+ (out), 11 DOUT3+ (out), 12 DOUT3- (out), 13 DOUT2- (out), 14 DOUT2+ (out), 15 DOUT1+ (out), 16 DOUT1- (out)

## DS90LV047ATMTC
designator U?
3V LVDS Quad CMOS Differential Line Driver, 16-pin TSSOP; PartNumber: DS90LV047ATMTC; Manufacturer: National Semiconductor; PackageTopMarking: NS2ZXYTT*DS90LV*047AT; PowerWise: N; CompType: Interface IC; High-Reliability: Y; DatasheetVersion: Jan-2003; PackageVersion: revD, Jun-2003; PackageReference: MTC16; PackageDescription: Molded TSSOP, Jedec, 5 x 4.4 x 0.9mm Body, 16 Lead, 0.65mm Pitch; RoHS: N; PinCount: 16; Code_JEDEC: MO-153-AB; ComponentLink1Description: Manufacturer URL; ComponentLink1URL: http://www.national.com/; ComponentLink2Description: DS90LV047A Datasheet; ComponentLink2URL: http://www.national.com/ds/DS/DS90LV047A.pdf; ComponentLink3Description: DS90LV047A Web Page; ComponentLink3URL: http://www.national.com/pf/DS/DS90LV047A.html; ComponentLink4Description: MTC16 Package Page; ComponentLink4URL: http://www.national.com/packaging/folders/mtc16.html
footprint MTC16_N (TSOP, 16-Leads, Body 5x4.4mm, Pitch 0.65mm, IPC Medium Density)
footprint MTC16_L (TSOP, 16-Leads, Body 5x4.4mm, Pitch 0.65mm, IPC High Density)
footprint MTC16_M (TSOP, 16-Leads, Body 5x4.4mm, Pitch 0.65mm, IPC Low Density)
pins: 1 EN (in), 2 DIN1 (in), 3 DIN2 (in), 4 VCC (power), 5 GND (power), 6 DIN3 (in), 7 DIN4 (in), 8 ~{EN} (in), 9 DOUT4- (out), 10 DOUT4+ (out), 11 DOUT3+ (out), 12 DOUT3- (out), 13 DOUT2- (out), 14 DOUT2+ (out), 15 DOUT1+ (out), 16 DOUT1- (out)

## DS90LV047ATMTC/NOPB
designator U?
3V LVDS Quad CMOS Differential Line Driver, 16-pin TSSOP, Pb-Free; PartNumber: DS90LV047ATMTC/NOPB; Manufacturer: National Semiconductor; PackageTopMarking: NS2ZXYTT*DS90LV*047AT; PowerWise: N; CompType: Interface IC; High-Reliability: Y; DatasheetVersion: Jan-2003; PackageVersion: revD, Jun-2003; PackageReference: MTC16; PackageDescription: Molded TSSOP, Jedec, 5 x 4.4 x 0.9mm Body, 16 Lead, 0.65mm Pitch; RoHS: Y; PinCount: 16; Code_JEDEC: MO-153-AB; ComponentLink1Description: Manufacturer URL; ComponentLink1URL: http://www.national.com/; ComponentLink2Description: DS90LV047A Datasheet; ComponentLink2URL: http://www.national.com/ds/DS/DS90LV047A.pdf; ComponentLink3Description: DS90LV047A Web Page; ComponentLink3URL: http://www.national.com/pf/DS/DS90LV047A.html; ComponentLink4Description: MTC16 Package Page; ComponentLink4URL: http://www.national.com/packaging/folders/mtc16.html
footprint MTC16_N (TSOP, 16-Leads, Body 5x4.4mm, Pitch 0.65mm, IPC Medium Density)
footprint MTC16_L (TSOP, 16-Leads, Body 5x4.4mm, Pitch 0.65mm, IPC High Density)
footprint MTC16_M (TSOP, 16-Leads, Body 5x4.4mm, Pitch 0.65mm, IPC Low Density)
pins: 1 EN (in), 2 DIN1 (in), 3 DIN2 (in), 4 VCC (power), 5 GND (power), 6 DIN3 (in), 7 DIN4 (in), 8 ~{EN} (in), 9 DOUT4- (out), 10 DOUT4+ (out), 11 DOUT3+ (out), 12 DOUT3- (out), 13 DOUT2- (out), 14 DOUT2+ (out), 15 DOUT1+ (out), 16 DOUT1- (out)

## DS90LV047ATMTCX
designator U?
3V LVDS Quad CMOS Differential Line Driver, 16-pin TSSOP; PartNumber: DS90LV047ATMTCX; Manufacturer: National Semiconductor; PackageTopMarking: NS2ZXYTT*DS90LV*047AT; PowerWise: N; CompType: Interface IC; High-Reliability: Y; DatasheetVersion: Jan-2003; PackageVersion: revD, Jun-2003; PackageReference: MTC16; PackageDescription: Molded TSSOP, Jedec, 5 x 4.4 x 0.9mm Body, 16 Lead, 0.65mm Pitch; RoHS: N; PinCount: 16; Code_JEDEC: MO-153-AB; ComponentLink1Description: Manufacturer URL; ComponentLink1URL: http://www.national.com/; ComponentLink2Description: DS90LV047A Datasheet; ComponentLink2URL: http://www.national.com/ds/DS/DS90LV047A.pdf; ComponentLink3Description: DS90LV047A Web Page; ComponentLink3URL: http://www.national.com/pf/DS/DS90LV047A.html; ComponentLink4Description: MTC16 Package Page; ComponentLink4URL: http://www.national.com/packaging/folders/mtc16.html
footprint MTC16_N (TSOP, 16-Leads, Body 5x4.4mm, Pitch 0.65mm, IPC Medium Density)
footprint MTC16_L (TSOP, 16-Leads, Body 5x4.4mm, Pitch 0.65mm, IPC High Density)
footprint MTC16_M (TSOP, 16-Leads, Body 5x4.4mm, Pitch 0.65mm, IPC Low Density)
pins: 1 EN (in), 2 DIN1 (in), 3 DIN2 (in), 4 VCC (power), 5 GND (power), 6 DIN3 (in), 7 DIN4 (in), 8 ~{EN} (in), 9 DOUT4- (out), 10 DOUT4+ (out), 11 DOUT3+ (out), 12 DOUT3- (out), 13 DOUT2- (out), 14 DOUT2+ (out), 15 DOUT1+ (out), 16 DOUT1- (out)

## DS90LV047ATMX
designator U?
3V LVDS Quad CMOS Differential Line Driver, 16-pin Narrow SOIC; PartNumber: DS90LV047ATMX; Manufacturer: National Semiconductor; PackageTopMarking: NS2ZXYTTE#*DS90LV047A*TM; PowerWise: N; CompType: Interface IC; High-Reliability: Y; DatasheetVersion: Jan-2003; PackageVersion: revJ, Aug-1995; PackageReference: M16A; PackageDescription: Molded Package, SO, .150in Wide, 16 Lead; RoHS: N; PinCount: 16; Code_JEDEC: MS-012-AC; Code_IPC: SOIC127P600-16; ComponentLink1Description: Manufacturer URL; ComponentLink1URL: http://www.national.com/; ComponentLink2Description: DS90LV047A Datasheet; ComponentLink2URL: http://www.national.com/ds/DS/DS90LV047A.pdf; ComponentLink3Description: DS90LV047A Web Page; ComponentLink3URL: http://www.national.com/pf/DS/DS90LV047A.html; ComponentLink4Description: M16A Package Page; ComponentLink4URL: http://www.national.com/packaging/folders/m16a.html
footprint M16A_N (SOIC, 16-Leads, Body 9.9x3.9mm, Pitch 1.27mm, IPC Medium Density)
footprint M16A_L (SOIC, 16-Leads, Body 9.9x3.9mm, Pitch 1.27mm, IPC High Density)
footprint M16A_M (SOIC, 16-Leads, Body 9.9x3.9mm, Pitch 1.27mm, IPC Low Density)
pins: 1 EN (in), 2 DIN1 (in), 3 DIN2 (in), 4 VCC (power), 5 GND (power), 6 DIN3 (in), 7 DIN4 (in), 8 ~{EN} (in), 9 DOUT4- (out), 10 DOUT4+ (out), 11 DOUT3+ (out), 12 DOUT3- (out), 13 DOUT2- (out), 14 DOUT2+ (out), 15 DOUT1+ (out), 16 DOUT1- (out)

## DS90LV048ATM
designator U?
3V LVDS Quad CMOS Differential Line Receiver, 16-pin Narrow SOIC; PartNumber: DS90LV048ATM; Manufacturer: National Semiconductor; PackageTopMarking: NS2ZXYTTE#*DS90LV048A*TM; PowerWise: N; CompType: Interface IC; High-Reliability: Y; DatasheetVersion: May-2001; PackageVersion: revJ, Aug-1995; PackageReference: M16A; PackageDescription: Molded Package, SO, .150in Wide, 16 Lead; RoHS: N; PinCount: 16; Code_JEDEC: MS-012-AC; Code_IPC: SOIC127P600-16; ComponentLink1Description: Manufacturer URL; ComponentLink1URL: http://www.national.com/; ComponentLink2Description: DS90LV048A Datasheet; ComponentLink2URL: http://www.national.com/ds/DS/DS90LV048A.pdf; ComponentLink3Description: DS90LV048A Web Page; ComponentLink3URL: http://www.national.com/pf/DS/DS90LV048A.html; ComponentLink4Description: M16A Package Page; ComponentLink4URL: http://www.national.com/packaging/folders/m16a.html
footprint M16A_N (SOIC, 16-Leads, Body 9.9x3.9mm, Pitch 1.27mm, IPC Medium Density)
footprint M16A_L (SOIC, 16-Leads, Body 9.9x3.9mm, Pitch 1.27mm, IPC High Density)
footprint M16A_M (SOIC, 16-Leads, Body 9.9x3.9mm, Pitch 1.27mm, IPC Low Density)
pins: 1 RIN1- (in), 2 RIN1+ (in), 3 RIN2+ (in), 4 RIN2- (in), 5 RIN3- (in), 6 RIN3+ (in), 7 RIN4+ (in), 8 RIN4- (in), 9 ~{EN} (in), 10 ROUT4 (out), 11 ROUT3 (out), 12 GND (power), 13 VCC (power), 14 ROUT2 (out), 15 ROUT1 (out), 16 EN (in)

## DS90LV048ATM/NOPB
designator U?
3V LVDS Quad CMOS Differential Line Receiver, 16-pin Narrow SOIC, Pb-Free; PartNumber: DS90LV048ATM/NOPB; Manufacturer: National Semiconductor; PackageTopMarking: NS2ZXYTTE#*DS90LV048A*TM; PowerWise: N; CompType: Interface IC; High-Reliability: Y; DatasheetVersion: May-2001; PackageVersion: revJ, Aug-1995; PackageReference: M16A; PackageDescription: Molded Package, SO, .150in Wide, 16 Lead; RoHS: Y; PinCount: 16; Code_JEDEC: MS-012-AC; Code_IPC: SOIC127P600-16; ComponentLink1Description: Manufacturer URL; ComponentLink1URL: http://www.national.com/; ComponentLink2Description: DS90LV048A Datasheet; ComponentLink2URL: http://www.national.com/ds/DS/DS90LV048A.pdf; ComponentLink3Description: DS90LV048A Web Page; ComponentLink3URL: http://www.national.com/pf/DS/DS90LV048A.html; ComponentLink4Description: M16A Package Page; ComponentLink4URL: http://www.national.com/packaging/folders/m16a.html
footprint M16A_N (SOIC, 16-Leads, Body 9.9x3.9mm, Pitch 1.27mm, IPC Medium Density)
footprint M16A_L (SOIC, 16-Leads, Body 9.9x3.9mm, Pitch 1.27mm, IPC High Density)
footprint M16A_M (SOIC, 16-Leads, Body 9.9x3.9mm, Pitch 1.27mm, IPC Low Density)
pins: 1 RIN1- (in), 2 RIN1+ (in), 3 RIN2+ (in), 4 RIN2- (in), 5 RIN3- (in), 6 RIN3+ (in), 7 RIN4+ (in), 8 RIN4- (in), 9 ~{EN} (in), 10 ROUT4 (out), 11 ROUT3 (out), 12 GND (power), 13 VCC (power), 14 ROUT2 (out), 15 ROUT1 (out), 16 EN (in)

## DS90LV048ATMTC
designator U?
3V LVDS Quad CMOS Differential Line Receiver, 16-pin TSSOP; PartNumber: DS90LV048ATMTC; Manufacturer: National Semiconductor; PackageTopMarking: NS2ZXYTT*DS90LV*048AT; PowerWise: N; CompType: Interface IC; High-Reliability: Y; DatasheetVersion: May-2001; PackageVersion: revD, Jun-2003; PackageReference: MTC16; PackageDescription: Molded TSSOP, Jedec, 5 x 4.4 x 0.9mm Body, 16 Lead, 0.65mm Pitch; RoHS: N; PinCount: 16; Code_JEDEC: MO-153-AB; ComponentLink1Description: Manufacturer URL; ComponentLink1URL: http://www.national.com/; ComponentLink2Description: DS90LV048A Datasheet; ComponentLink2URL: http://www.national.com/ds/DS/DS90LV048A.pdf; ComponentLink3Description: DS90LV048A Web Page; ComponentLink3URL: http://www.national.com/pf/DS/DS90LV048A.html; ComponentLink4Description: MTC16 Package Page; ComponentLink4URL: http://www.national.com/packaging/folders/mtc16.html
footprint MTC16_N (TSOP, 16-Leads, Body 5x4.4mm, Pitch 0.65mm, IPC Medium Density)
footprint MTC16_L (TSOP, 16-Leads, Body 5x4.4mm, Pitch 0.65mm, IPC High Density)
footprint MTC16_M (TSOP, 16-Leads, Body 5x4.4mm, Pitch 0.65mm, IPC Low Density)
pins: 1 RIN1- (in), 2 RIN1+ (in), 3 RIN2+ (in), 4 RIN2- (in), 5 RIN3- (in), 6 RIN3+ (in), 7 RIN4+ (in), 8 RIN4- (in), 9 ~{EN} (in), 10 ROUT4 (out), 11 ROUT3 (out), 12 GND (power), 13 VCC (power), 14 ROUT2 (out), 15 ROUT1 (out), 16 EN (in)